# Altium footprint library myLIB.PcbLib: 144 footprints (part 9 of 9)
Each footprint in its own frame and in the unit in brackets; x right, y up, seen from the top. Pads: shape width x height; smd on the part's side, far side on the other; paste and mask are expansions set on the pad; w line width, h text height; cw(c..) or ccw(c..) is an arc to the next point about the centre after c.
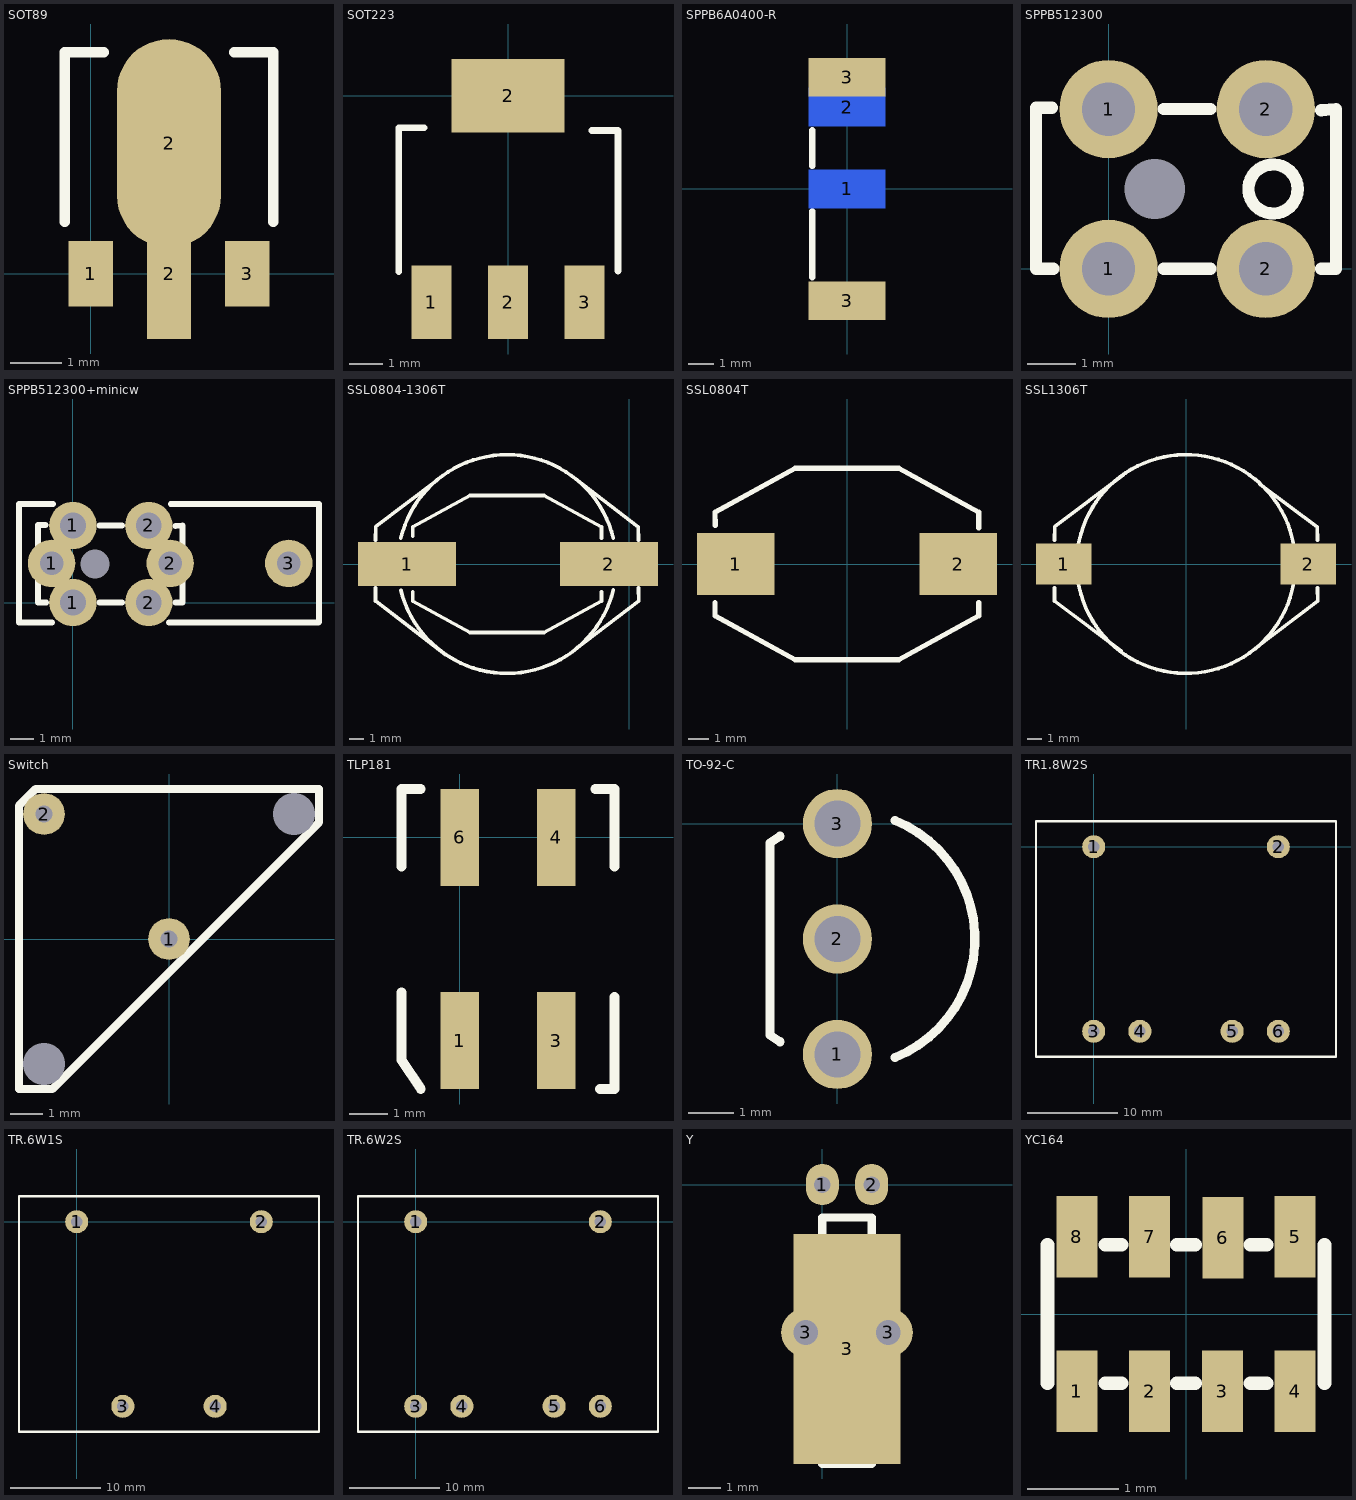
[diagram p8: the footprints below, top view; thin cyan lines are the x and y axes]

## SOT89 [mil]
pads (4):
  rect 34x50 smd: 1(0,0) 3(120,0)
  rect 34x100 smd: 2(60,0)
  oval 80x160 smd: 2(60,100)
TopOverlay:
  lines w8: -20,40 -20,170 10,170 ; 110,170 140,170 140,40

## SOT223 [mm]
pads (4):
  rect 1.2x2.2 smd: 1(-2.3,-6.2) 2(0,-6.2) 3(2.3,-6.2)
  rect 3.4x2.2 smd: 2(0,0)
TopOverlay:
  lines w0.203: -3.277,-5.283 -3.277,-0.965 -2.515,-0.965 ; 2.515,-1.041 3.277,-1.041 ; 3.302,-5.258 3.302,-1.041

## SPPB6A0400-R [mil] "SPPB6A0400 SWITCH A NYÁK ÉLÉN"
pads (4):
  rect 120x60 smd far side: 1(0,0) 2(0,127.95)
  rect 120x60 smd: 3(0,-174.41) 3(0,174.41)
TopOverlay:
  lines w10: -54,-138 -54,-35 ; -54,36 -54,92

## SPPB512300 [mm] "SPPB series switch"
height 0.254
pads (5):
  round 0 hole 1.25: 0(0.95,1.65)
  round 2.032 hole 1.1: 1(0,0) 1(0,3.3) 2(3.25,0) 2(3.25,3.3)
TopOverlay:
  circle w0.254: c3.4,1.65 r0.508
  lines w0.254: -1.5,0 -1.5,3.3 ; -1.499,0 -1.143,0 ; -1.499,3.327 -1.168,3.327 ; 1.143,0 2.108,0 ; 1.143,3.302 2.108,3.302 ; 4.394,0 4.699,0 ; 4.394,3.277 4.699,3.302 ; 4.7,0 4.7,3.3

## SPPB512300+minicw [mil]
pads (8):
  round 0 hole 49.21: 0(37.4,64.96)
  round 80 hole 40: 1(-36,66) 2(164,66) 3(364,66)
  round 80 hole 43.31: 1(0,0) 1(0,129.92) 2(127.95,0) 2(127.95,129.92)
TopOverlay:
  lines w10: -59.06,0 -59.06,129.92 ; -59,0 -45,0 ; -59,131 -46,131 ; -35,-34 -91,-34 -91,166 -34,166 ; 45,0 83,0 ; 45,130 83,130 ; 162,-34 414,-34 415,-33 415,166 165,166 ; 173,0 185,0 ; 173,129 185,130 ; 185.04,0 185.04,129.92

## SSL0804-1306T [mil]
pads (2):
  rect 265x120 smd: 1(-600,0) 2(-55,0)
TopOverlay:
  lines w10: -685,-65 -685,-100 -495,-245 ; -685,65 -684.33,100 -684.33,100.67 -520,225 ; -616.75,70.43 cw(c-330,0) -43.25,70.43 ; -616.46,-71.61 ccw(c-330,0) -42.97,-69.28 ; -585,-75 -585,-100 -430,-185 -230,-185 -75.28,-100 -75.28,-75 ; -584.72,75 -585,100 -430,185.04 -230,185.04 -75.28,100 -75.28,70 ; -145,-230 25.67,-100 25,-65 ; -145,230 24.33,100 25,65

## SSL0804T [mil]
pads (2):
  rect 150x120 smd: 1(-215,0) 2(215,0)
TopOverlay:
  lines w10: -255,-75 -255,-100 -100,-185 100,-185 254.72,-100 254.72,-75 ; -254.72,75 -255,100 -100,185.04 100,185.04 254.72,100 254.72,70

## SSL1306T [mil]
pads (2):
  rect 150x110 smd: 1(-330,0) 2(330,0)
TopOverlay:
  circle w10: c0,0 r295.28
  lines w10: -355,-65 -355,-100 -175,-235 ; -355,65 -354.33,100 -354.33,100.67 -170,240 ; 185,-230 355.67,-100 355,-65 ; 200,215 354.33,100 355,65

## Switch [mil]
pads (4):
  round 0 hole 50: 0(-150,-150) 0(150,150)
  round 50 hole 20: 1(0,0) 2(-150,150)
TopOverlay:
  lines w10: -180,-180 -140,-180 180,140 180,180 -160,180 -180,160 -180,-180

## TLP181 [mil]
pads (4):
  rect 40x100 smd: 1(0,-210) 3(100,-210) 4(100,0) 6(0,0)
TopOverlay:
  lines w10: -60,-160 -60,-230 -40,-260 ; -60,-30 -60,50 -40,50 ; 140,50 160,50 160,-30 ; 145,-260 160,-260 160,-165

## TO-92-C [mil]
pads (3):
  round 60 hole 40: 1(0,-200) 2(0,-100) 3(0,0)
TopOverlay:
  lines w7.87: -49.71,-189.08 -58.33,-183.33 -58.33,-16.67 -49.71,-10.92 ; 49.85,-202.76 ccw(c8.33,-100) 49.85,2.76

## TR1.8W2S [mil]
pads (6):
  round 100 hole 50: 1(0,0) 2(800,0) 3(0,-800) 4(200,-800) 5(600,-800) 6(800,-800)
TopOverlay:
  lines w10: -250,-910 1050,-910 1050,110 -250,110 -250,-910

## TR.6W1S [mil]
pads (4):
  round 100 hole 50: 1(0,0) 2(800,0) 3(200,-800) 4(600,-800)
TopOverlay:
  lines w10: -250,-910 -250,110 1050,110 1050,-910 -250,-910

## TR.6W2S [mil]
pads (6):
  round 100 hole 50: 1(0,0) 2(800,0) 3(0,-800) 4(200,-800) 5(600,-800) 6(800,-800)
TopOverlay:
  lines w10: -250,-910 -250,110 1050,110 1050,-910 -250,-910

## Y [mil]
pads (5):
  oval 40x50 hole 20: 1(0,0) 2(60,0)
  round 60 hole 30: 3(-20,-180) 3(80,-180)
  rect 130x280 smd: 3(30,-200)
TopOverlay:
  lines w10: 0,-340 60,-340 60,-40 0,-40 0,-340

## YC164 [mm] "YC164 Chip Resistor array"
height 0.015
pads (8):
  rect 0.45x0.9 smd: 1(-1.2,-0.85) 2(-0.4,-0.85) 3(0.4,-0.85) 4(1.2,-0.85) 5(1.2,0.85) 6(0.406,0.838) 7(-0.4,0.85) 8(-1.2,0.85)
TopOverlay:
  lines w0.152: -1.524,-0.762 -1.524,0.762 ; -0.889,-0.762 -0.711,-0.762 ; -0.889,0.762 -0.711,0.762 ; -0.102,-0.762 0.102,-0.762 ; -0.102,0.762 0.102,0.762 ; 0.711,-0.762 0.889,-0.762 ; 0.711,0.762 0.889,0.762 ; 1.524,-0.762 1.524,0.762